# Altium schematic symbol library 282837-7.SchLib: 1 symbol
Pins are listed as number, name and electrical type; pins without a type are passive.

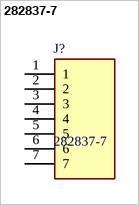
[diagram p0: symbol 282837-7]

## 282837-7
designator J?
Fixed Terminal Blocks 5.08MM PCB MOUNT 7P; Manufacturer_Name: TE Connectivity; Geometry.Height: 10mm; Mouser Part Number: 571-2828377; Mouser Price/Stock: https://www.mouser.co.uk/ProductDetail/TE-Connectivity/282837-7?qs=A%252Bip%252BNCYi6OpGcunckL3uQ%3D%3D; Manufacturer_Part_Number: 282837-7; Datasheet Link: https://componentsearchengine.com/Datasheets/1/282837-7.pdf
footprint SHDR7W100P0X508_1X7_3556X820X1000P
pins: 1, 2, 3, 4, 5, 6, 7